# EAGLE library part CONNECTOR-RELAY-PUMPS (library RelayBoard)
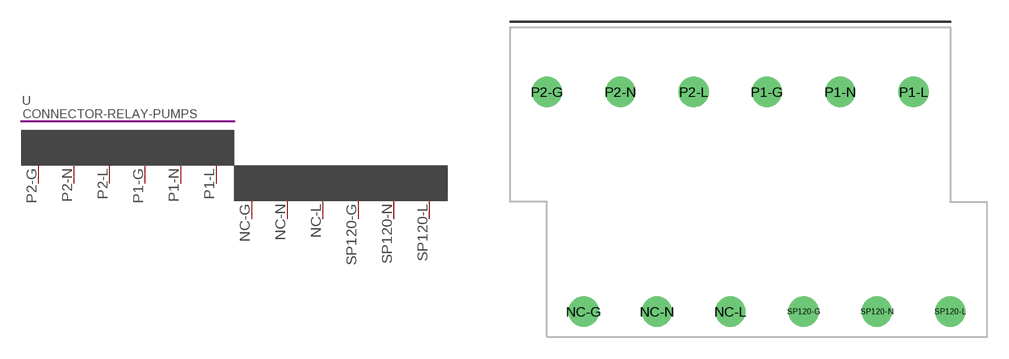
[diagram p2: symbol with the pads of CON-SCREW-2LVL-6POS-TE-CUSTOM-120PUMP; footprint CON-SCREW-2LVL-6POS-TE-CUSTOM-120PUMP]

Designator prefix -

## CONNECTOR-RELAY-PUMPS  [CON-SCREW-2LVL-6POS-TE-CUSTOM-120PUMP]
NC-G  NC-G  pwr
NC-L  NC-L  pwr
NC-N  NC-N  pwr
P1-G  P1-G  pwr
P1-L  P1-L  pwr
P1-N  P1-N  pwr
P2-G  P2-G  pwr
P2-L  P2-L  pwr
P2-N  P2-N  pwr
SP120-G  SP-G  pwr
SP120-L  SP-L  pwr
SP120-N  SP-N  pwr

## Footprint CON-SCREW-2LVL-6POS-TE-CUSTOM-120PUMP (pad centres in mm)
http://www.te.com/commerce/DocumentDelivery/DDEController?Action=srchrtrv&DocNm=796692&DocType=Customer+Drawing&DocLang=English
drill 1.4: NC-G 2.54,-7.62; NC-L 12.7,-7.62; NC-N 7.62,-7.62; P1-G 15.24,7.62; P1-L 25.4,7.62; P1-N 20.32,7.62; P2-G 0,7.62; P2-L 10.16,7.62; P2-N 5.08,7.62; SP120-G 17.78,-7.62; SP120-L 27.94,-7.62; SP120-N 22.86,-7.62